# Altium footprint library Iot_Flatform_lib_pcb.PcbLib: 9 footprints
Each footprint in its own frame and in the unit in brackets; x right, y up, seen from the top. Pads: shape width x height; smd on the part's side, far side on the other; paste and mask are expansions set on the pad; w line width, h text height; cw(c..) or ccw(c..) is an arc to the next point about the centre after c.
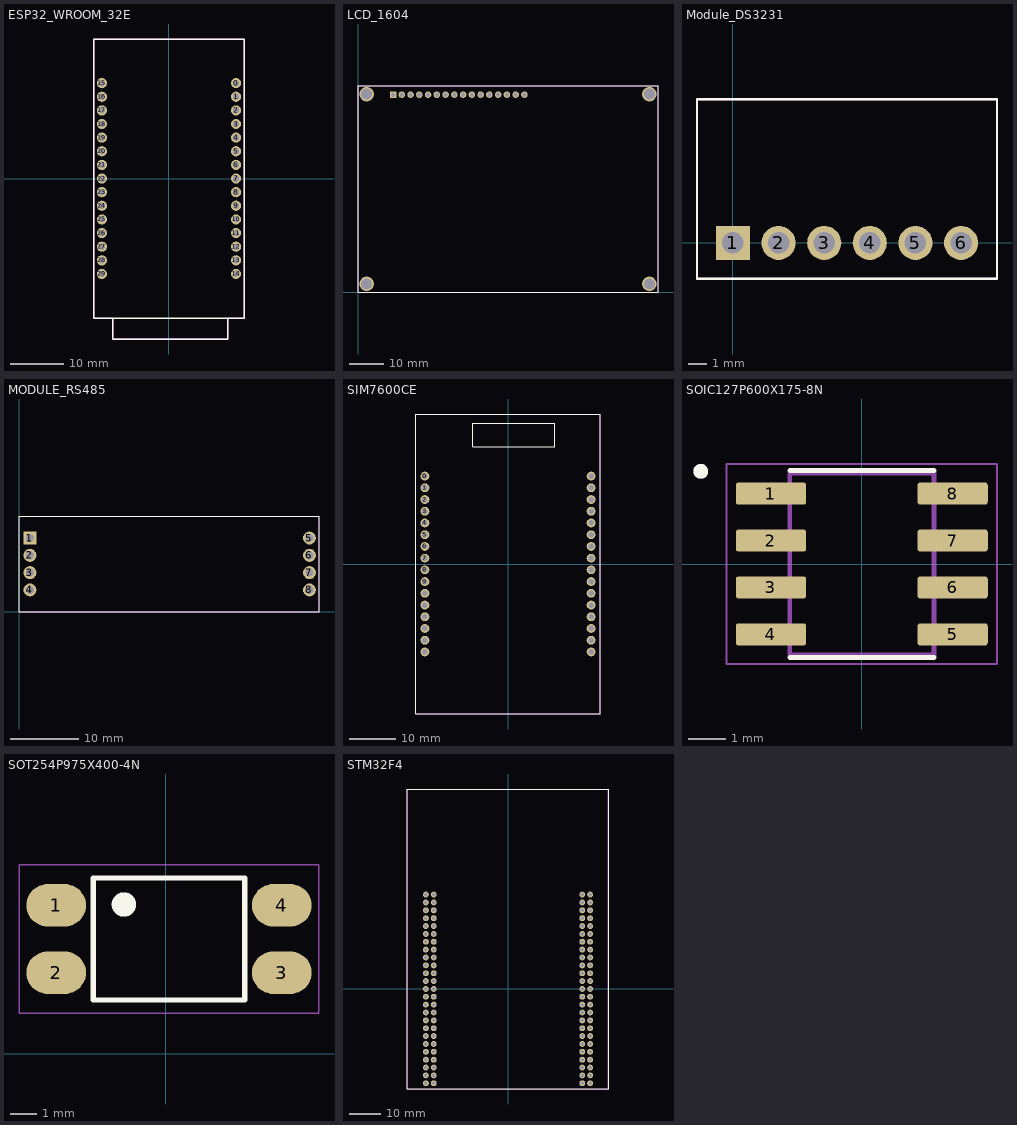
[diagram p0: the footprints below, top view; thin cyan lines are the x and y axes]

## ESP32_WROOM_32E [mm]
pads (30):
  round 1.9 hole 1.2: 0(12.5,17.78) 1(12.5,15.24) 2(12.5,12.7) 3(12.5,10.16) 4(12.5,7.62) 5(12.5,5.08) 6(12.5,2.54) 7(12.5,0) 8(12.5,-2.54) 9(12.5,-5.08) 10(12.5,-7.62) 11(12.5,-10.16) 12(12.5,-12.7) 13(12.5,-15.24) 14(12.5,-17.78) 15(-12.5,17.78) 16(-12.5,15.24) 17(-12.5,12.7) 18(-12.5,10.16) 19(-12.5,7.62) 20(-12.5,5.08) 21(-12.5,2.54) 22(-12.5,0) 23(-12.5,-2.54) 24(-12.5,-5.08) 25(-12.5,-7.62) 26(-12.5,-10.16) 27(-12.5,-12.7) 28(-12.5,-15.24) 29(-12.5,-17.78)
Top Overlay:
  lines w0.254: -10.5,-26.1 -10.5,-29.9 11,-29.9 11,-26 ; -14,-26 14,-26 14,26 0,26 -14,26 -14,-26
Mechanical 13:
  lines w0.254: -13.995,-25.984 -13.995,25.984 13.945,25.984 14.021,25.908 14.021,-25.959 13.919,-26.06 11.024,-26.06 10.998,-26.086 10.998,-29.896 -10.439,-29.896 -10.49,-29.845 -10.49,-26.01 -13.97,-26.01 -13.995,-25.984

## LCD_1604 [mm]
pads (20):
  rect 1.9x1.9 hole 1.2: 1(10.16,57.35)
  round 1.9 hole 1.2: 2(12.7,57.35) 3(15.24,57.35) 4(17.78,57.35) 5(20.32,57.35) 6(22.86,57.35) 7(25.4,57.35) 8(27.94,57.35) 9(30.48,57.35) 10(33.02,57.35) 11(35.56,57.35) 12(38.1,57.35) 13(40.64,57.35) 14(43.18,57.35) 15(45.72,57.35) 16(48.26,57.35)
  round 4.2 hole 3.2: ""(2.5,2.5) ""(2.5,57.5) ""(84.5,2.5) ""(84.5,57.5)
Top Overlay:
  lines w0.127: 0,0 87,0 87,60 0,60 0,0
Mechanical 1:
  lines w0.127: 0,0 87,0 87,60 0,60 0,0
3D body "LCD_SCREEN_16x4.step": height 16.65, standoff -3.27, extent 0.112,-0.028 87.112,60.022

## Module_DS3231 [mm]
pads (6):
  rect 1.9x1.9 hole 1.2: 1(0,0)
  round 1.9 hole 1.2: 2(2.54,0) 3(5.08,0) 4(7.62,0) 5(10.16,0) 6(12.7,0)
Top Overlay:
  lines w0.127: -2,-2 14.7,-2 14.7,8 -2,8 -2,-2
Mechanical 1:
  lines w0.127: -2,-2 -2,8 14.7,8 14.7,-2 -2,-2
3D body "DS3231_RTC.step": height 41.3, standoff -3.45, extent -4.923,-0.361 17.877,13.169

## MODULE_POWER_LM2596 [mm]

## MODULE_RS485 [mm]
pads (8):
  rect 1.9x1.9 hole 1.2: 1(1.6,10.81)
  round 1.9 hole 1.2: 2(1.6,8.27) 3(1.6,5.73) 4(1.6,3.19) 5(42.6,10.81) 6(42.6,8.27) 7(42.6,5.73) 8(42.6,3.19)
Top Overlay:
  lines w0.127: 0,0 0,14 44,14 44,0 0,0
Bottom Overlay:
  lines w0.127: 0,0 0,14
Mechanical 1:
  lines w0.127: 0,0 44,0 44,14 0,14
3D body "rs485.stp": height 15, standoff -5, extent 0,0 44,14

## SIM7600CE [mm]
pads (34):
  round 1.9 hole 1.2: 0(-18,19.05) 0(-18,19.05) 1(-18,16.51) 2(-18,13.97) 3(-18,11.43) 4(-18,8.89) 5(-18,6.35) 6(-18,3.81) 7(-18,1.27) 8(-18,-1.27) 9(-18,-3.81) 10(-18,-6.35) 11(-18,-8.89) 12(-18,-11.43) 13(-18,-13.97) 14(-18,-16.51) 15(-18,-19.05) 16(18,19.05) 16(18,19.05) 17(18,16.51) 18(18,13.97) 19(18,11.43) 20(18,8.89) 21(18,6.35) 22(18,3.81) 23(18,1.27) 24(18,-1.27) 25(18,-3.81) 26(18,-6.35) 27(18,-8.89) 28(18,-11.43) 29(18,-13.97) 30(18,-16.51) 31(18,-19.05)
Top Overlay:
  lines w0.254: -20,-32.5 20,-32.5 20,32.5 -20,32.5 -20,-32.5 ; -7.62,25.4 -7.62,30.48 10.16,30.48 10.16,25.4 -7.62,25.4
Mechanical 13:
  lines w0.254: -19.99,-32.461 -19.99,32.461 19.99,32.461 19.99,-32.461 19.964,-32.487 -19.964,-32.487 -19.99,-32.461

## SOIC127P600X175-8N [mm]
pads (8):
  rrect25% 1.9x0.6 smd: 1(-2.455,1.905) 2(-2.455,0.635) 3(-2.455,-0.635) 4(-2.455,-1.905) 5(2.455,-1.905) 6(2.455,-0.635) 7(2.455,0.635) 8(2.455,1.905)
Top Overlay:
  circle w0.2: c-4.355,2.505 r0.1
  lines w0.127: -1.95,-2.525 1.95,-2.525 ; -1.95,2.525 1.95,2.525
Mechanical 13:
  circle w0.2: c-4.355,2.505 r0.1
  lines w0.127: -1.95,-2.45 -1.95,2.45 1.95,2.45 1.95,-2.45 -1.95,-2.45
Mechanical 15:
  lines w0.05: -3.655,-2.7 -3.655,2.7 3.655,2.7 3.655,-2.7 -3.655,-2.7
3D body "MCP4921-E_SN.STEP": height 1.75, standoff 0, extent -3.127,-2.45 2.873,2.45

## SOT254P975X400-4N [mm]
pads (4):
  oval 2.25x1.6 smd: 1(-4.123,5.588) 2(-4.123,3.048) 3(4.377,3.048) 4(4.377,5.588)
Top Overlay:
  circle w0.2: c-1.573,5.618 r0.361
  region: -1.273,5.319 -1.874,5.319 -1.874,5.918 -1.273,5.918
  lines w0.2: -2.723,2.018 2.977,2.018 2.977,6.618 -2.723,6.618 -2.723,2.018
Mechanical 15:
  lines w0.052: -5.523,1.518 5.777,1.518 5.777,7.118 -5.523,7.118 -5.523,1.518
3D body "step_temp.STEP": height 4, standoff 0, extent -4.873,2.028 5.127,6.608

## STM32F4 [mm]
pads (105):
  round 1.9 hole 1.2: 0(26.54,30.48) 1(26.54,27.94) 2(26.54,25.4) 3(26.54,22.86) 4(26.54,20.32) 5(26.54,17.78) 6(26.54,15.24) 7(26.54,12.7) 8(26.54,10.16) 9(26.54,7.62) 10(26.54,5.08) 11(26.54,2.54) 12(26.54,0) 13(26.54,-2.54) 14(26.54,-5.08) 15(26.54,-7.62) 16(26.54,-10.16) 17(26.54,-12.7) 18(26.54,-15.24) 19(26.54,-17.78) 20(26.54,-20.32) 21(26.54,-22.86) 22(26.54,-25.4) 23(26.54,-27.94) 24(26.54,-30.48) 25(24,30.48) 25(24,30.48) 25(24,30.48) 26(24,27.94) 27(24,25.4) 28(24,22.86) 29(24,20.32) 30(24,17.78) 31(24,15.24) 32(24,12.7) 33(24,10.16) 34(24,7.62) 35(24,5.08) 36(24,2.54) 37(24,0) 38(24,-2.54) 39(24,-5.08) 40(24,-7.62) 41(24,-10.16) 42(24,-12.7) 43(24,-15.24) 44(24,-17.78) 45(24,-20.32) 46(24,-22.86) 47(24,-25.4) 48(24,-27.94) 49(24,-30.48) 50(-24,30.48) 50(-24,30.48) 50(-24,30.48) 51(-24,27.94) 52(-24,25.4) 53(-24,22.86) 54(-24,20.32) 55(-24,17.78) 56(-24,15.24) 57(-24,12.7) 58(-24,10.16) 59(-24,7.62) 60(-24,5.08) 61(-24,2.54) 62(-24,0) 63(-24,-2.54) 64(-24,-5.08) 65(-24,-7.62) 66(-24,-10.16) 67(-24,-12.7) 68(-24,-15.24) 69(-24,-17.78) 70(-24,-20.32) 71(-24,-22.86) 72(-24,-25.4) 73(-24,-27.94) 74(-24,-30.48) 75(-26.54,30.48) 75(-26.54,30.48) 76(-26.54,27.94) 77(-26.54,25.4) 78(-26.54,22.86) 79(-26.54,20.32) 80(-26.54,17.78) 81(-26.54,15.24) 82(-26.54,12.7) 83(-26.54,10.16) 84(-26.54,7.62) 85(-26.54,5.08) 86(-26.54,2.54) 87(-26.54,0) 88(-26.54,-2.54) 89(-26.54,-5.08) 90(-26.54,-7.62) 91(-26.54,-10.16) 92(-26.54,-12.7) 93(-26.54,-15.24) 94(-26.54,-17.78) 95(-26.54,-20.32) 96(-26.54,-22.86) 97(-26.54,-25.4) 98(-26.54,-27.94) 99(-26.54,-30.48)
Top Overlay:
  lines w0.254: -32.5,-32.3 -32.5,64.6 32.5,64.6 32.5,-32.3 0,-32.3 -32.5,-32.3
Mechanical 13:
  lines w0.254: -32.487,-32.283 -32.436,-32.334 32.36,-32.334 32.461,-32.233 32.461,64.567 -32.487,64.567 -32.487,-32.283